# Altium footprint library ADC-20-132&plus_.PcbLib: 3 footprints
Each footprint in its own frame and in the unit in brackets; x right, y up, seen from the top. Pads: shape width x height; smd on the part's side, far side on the other; paste and mask are expansions set on the pad; w line width, h text height; cw(c..) or ccw(c..) is an arc to the next point about the centre after c.
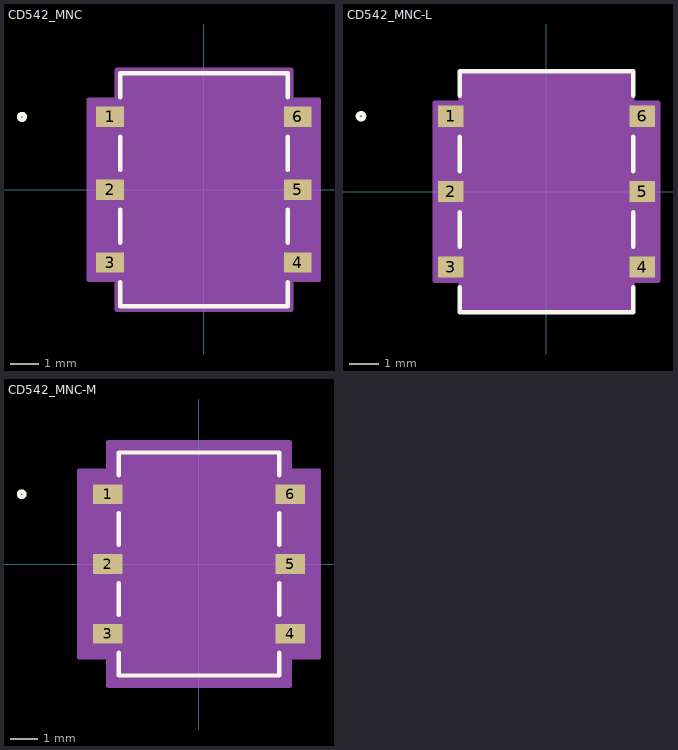
[diagram p0: the footprints below, top view; thin cyan lines are the x and y axes]

## CD542_MNC [mil]
pads (6):
  rect 38x28 smd paste+0 mask+0: 1(-129,100) 2(-129,0) 3(-129,-100) 4(129,-100) 5(129,0) 6(129,100)
Top Overlay:
  circle w6: c-250,100 r4
  lines w6: -115,-127.1 -115,-160 115,-160 115,-127.1 ; -115,-72.9 -115,-27.1 ; -115,27.1 -115,72.9 ; -115,127.1 -115,160 115,160 115,127.1 ; 115,-72.9 115,-27.1 ; 115,27.1 115,72.9
Mechanical 13:
  circle w0: c-110,100 r3
  lines w0: -12,155 ccw(c0,155) 12,155
  lines w1: -110,-155 110,-155 110,155 -110,155 -110,-155
Mechanical 15:
  region: -120,-124 -158,-124 -158,124 -120,124 -120,165 120,165 120,124 158,124 158,-124 120,-124 120,-165 -120,-165
  lines w6: -158,-124 -158,124 -120,124 -120,165 120,165 120,124 158,124 158,-124 120,-124 120,-165 -120,-165 -120,-124 -158,-124
3D body "CD542_MNC.step": height 112.09, standoff 0, extent -135.98,-155 135.98,155

## CD542_MNC-L [mil]
pads (6):
  rect 34x28 smd paste+0 mask+0: 1(-127,100) 2(-127,0) 3(-127,-100) 4(127,-100) 5(127,0) 6(127,100)
Top Overlay:
  circle w6: c-246,100 r4
  lines w6: -115,-127.1 -115,-160 115,-160 115,-127.1 ; -115,-72.9 -115,-27.1 ; -115,27.1 -115,72.9 ; -115,127.1 -115,160 115,160 115,127.1 ; 115,-72.9 115,-27.1 ; 115,27.1 115,72.9
Mechanical 13:
  circle w0: c-110,100 r3
  lines w0: -12,155 ccw(c0,155) 12,155
  lines w1: -110,-155 110,-155 110,155 -110,155 -110,-155
Mechanical 15:
  region: -114,-118 -148,-118 -148,118 -114,118 -114,159 114,159 114,118 148,118 148,-118 114,-118 114,-159 -114,-159
  lines w6: -148,-118 -148,118 -114,118 -114,159 114,159 114,118 148,118 148,-118 114,-118 114,-159 -114,-159 -114,-118 -148,-118
3D body "CD542_MNC.step": height 112.09, standoff 0, extent -135.98,-155 135.98,155

## CD542_MNC-M [mil]
pads (6):
  rect 42x28 smd paste+0 mask+0: 1(-131,100) 2(-131,0) 3(-131,-100) 4(131,-100) 5(131,0) 6(131,100)
Top Overlay:
  circle w6: c-254,100 r4
  lines w6: -115,-127.1 -115,-160 115,-160 115,-127.1 ; -115,-72.9 -115,-27.1 ; -115,27.1 -115,72.9 ; -115,127.1 -115,160 115,160 115,127.1 ; 115,-72.9 115,-27.1 ; 115,27.1 115,72.9
Mechanical 13:
  circle w0: c-110,100 r3
  lines w0: -12,155 ccw(c0,155) 12,155
  lines w1: -110,-155 110,-155 110,155 -110,155 -110,-155
Mechanical 15:
  region: -130,-134 -172,-134 -172,134 -130,134 -130,175 130,175 130,134 172,134 172,-134 130,-134 130,-175 -130,-175
  lines w6: -172,-134 -172,134 -130,134 -130,175 130,175 130,134 172,134 172,-134 130,-134 130,-175 -130,-175 -130,-134 -172,-134
3D body "CD542_MNC.step": height 112.09, standoff 0, extent -135.98,-155 135.98,155